# Altium schematic symbol library Movandi-Schlib1.SchLib: 6 symbols
Pins are listed as number, name and electrical type; pins without a type are passive.

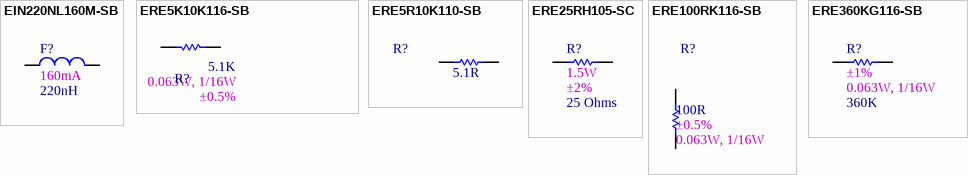
[diagram p0: symbols EIN220NL160M-SB to ERE360KG116-SB]

## EIN220NL160M-SB
designator F?, comment value 220nH  1st Auxiliary Field: 160mA  (hidden comment: FIXED IND 220NH 160MA 790 MOHM)
Manufacturer: TDK Corporation; Internal Part Number: EIN220NL160M-SB; Manufacturer Part Number: MLF1005VR22KT000; Vendor Part Number: 445-15706-1-ND; 3rd Auxiliary Field: ROHS3 Compliant; Component Height (mm): 0.55 mm; 4th Auxiliary Field: ±10%; Vendor Name: Digi-Key; Temp Co: -40°C ~ 85°C; 2nd Auxiliary Field: 220nH; Part Type: FIXED IND 220NH 160MA 790 MOHM
footprint SMDL0402
pins: 1, 2
1 alternate drawing of the same symbol

## ERE5K10K116-SB
designator R?, comment value 5.1K  2nd Auxiliary Field: ±0.5%  1st Auxiliary Field: 0.063W, 1/16W  (hidden comment: RES SMD 5.1K OHM 0.5% 1/16W 0402)
Manufacturer Part Number: RT0402DRE075K1L; Manufacturer: Yageo; Internal Part Number: ERE5K10K116-SB; Vendor Part Number: 311-2305-1-ND; 3rd Auxiliary Field: ROHS3 Compliant; Component Height (mm): (0.35mm; Temp Co: ±50ppm/°C; Vendor Name: Digi-Key; Part Type: RES SMD 5.1K OHM 0.5% 1/16W 0402; 4th Auxiliary Field: *
footprint SMDRC0402 (Footprint not found)
footprint SMDR0402
pins: 1, 2

## ERE5R10K110-SB
designator R?, comment value 5.1R  (hidden comment: RES SMD 5.1 OHM 5% 1/10W 0402)
Manufacturer Part Number: ERJ-2GEJ5R1X; Manufacturer: Panasonic Electronic Components; Internal Part Number: ERE5R10K110-SB; Vendor Part Number: P5.1JCT-ND; Temp Co: -100/ +600ppm/°C; 4th Auxiliary Field: ROHS3 Compliant; Vendor Name: Digi-Key; Component Height (mm): 0.40mm; 1st Auxiliary Field: 0.1W, 1/10W; 3rd Auxiliary Field: *; Part Type: RES SMD 5.1 OHM 5% 1/10W 0402; 2nd Auxiliary Field: ±5%
footprint SMDR0402 (Footprint not found)
pins: 1, 2

## ERE25RH105-SC
designator R?, comment value 25 Ohms  1st Auxiliary Field: 1.5W  2nd Auxiliary Field: ±2%  (hidden comment: RES SMD 25 OHM 2% 1.5W 0603)
Manufacturer Part Number: RCP0603W25R0GEB; Manufacturer: Vishay Dale; Internal Part Number: ERE25RH105-SC; Vendor Part Number: 541-2654-1-ND; 3rd Auxiliary Field: ROHS3 Compliant; Component Height (mm): 0.58mm; Temp Co: ±150ppm/°C; Vendor Name: Digi-Key; Part Type: RES SMD 25 OHM 2% 1.5W 0603; 4th Auxiliary Field: *
footprint SMDR0603 (Footprint not found)
pins: 1, 2

## ERE100RK116-SB
designator R?, comment value 100R  1st Auxiliary Field: 0.063W, 1/16W  2nd Auxiliary Field: ±0.5%  (hidden comment: RES SMD 100 OHM 0.5% 1/16W 0402)
Manufacturer Part Number: ERA-2AED101X; Manufacturer: Panasonic Electronic Components; Internal Part Number: ERE100RK116-SB; Vendor Part Number: P100DECT-ND; Component Height (mm): 0.40mm; 4th Auxiliary Field: ROHS3 Compliant; Vendor Name: Digi-Key; Temp Co: ±25ppm/°C; Part Type: RES SMD 100 OHM 0.5% 1/16W 0402; 3rd Auxiliary Field: *
footprint SMDR0402 (Footprint not found)
pins: 1, 2

## ERE360KG116-SB
designator R?, comment value 360K  2nd Auxiliary Field: ±1%  1st Auxiliary Field: 0.063W, 1/16W  (hidden comment: RES SMD 360K OHM 1% 1/16W 0402)
Manufacturer: Yageo; Vendor Part Number: 311-360KLRCT-ND; Manufacturer Part Number: RC0402FR-07360KL; Internal Part Number: ERE360KG116-SB; Vendor Name: Digi-Key; 3rd Auxiliary Field: ROHS3 Compliant; Component Height (mm): 0.40mm; Temp Co: ±100ppm/°C; Part Type: RES SMD 360K OHM 1% 1/16W 0402; 4th Auxiliary Field: *
footprint SMDR0402 (Footprint not found)
pins: 1, 2